# Altium schematic symbol library 10142708-04200LF.SchLib: 1 symbol
Pins are listed as number, name and electrical type; pins without a type are passive.

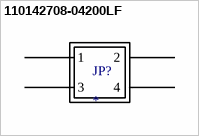
[diagram p0: symbol 110142708-04200LF]

## 110142708-04200LF
designator JP?
footprint 10142708-04200LF
pins: 1, 2, 3, 4